# Altium integrated library Diodes-Power.IntLib: 75 symbols
Pins are listed as number, name and electrical type; pins without a type are passive.

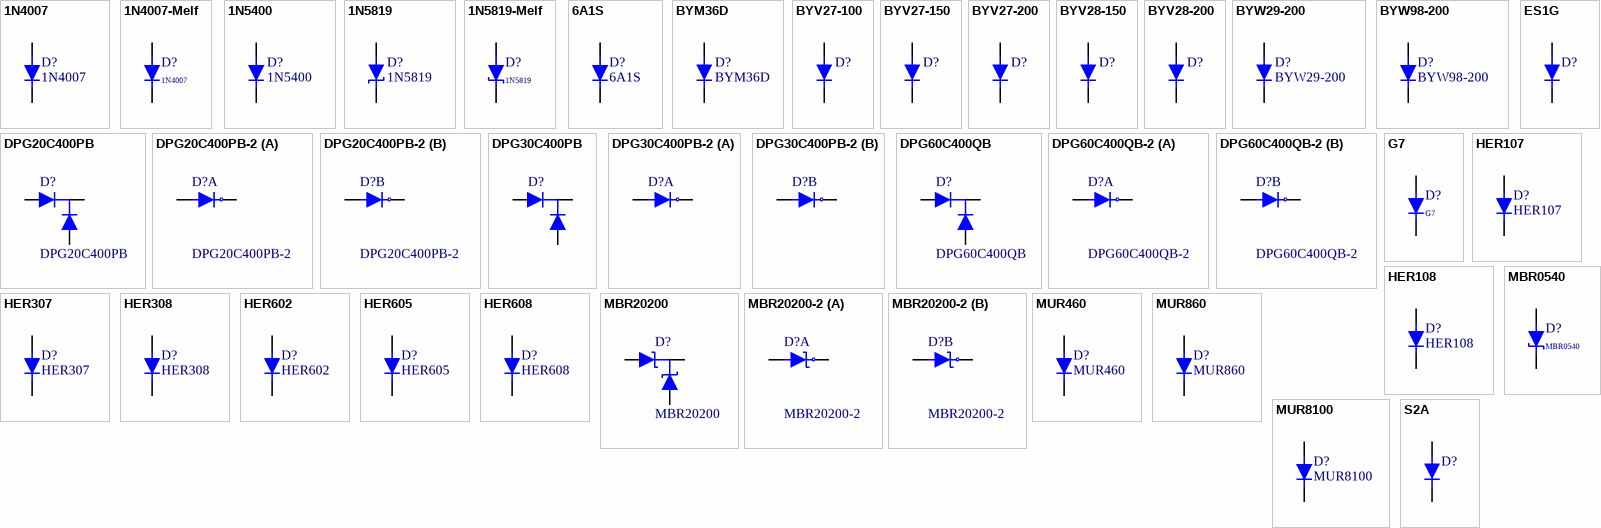
[diagram p0: symbols 1N4007 to S2A]

## 1N4007
designator D?
1000V 1A; Price: 0.05
footprint DO-41-300
simulation model D1N4007 (Model Description)
signal-integrity model D (Model Description)
footprint DO-41 Ver-100
footprint DO-41 Ver-100R
footprint DO-41 Ver-150
footprint DO-41 Ver-150R
footprint DO-41 Ver-200
footprint DO-41 Ver-200R
pins: 1 A, 2 K
1 alternate drawing of the same symbol

## 1N4007-Melf
designator D?, comment 1N4007
SMD-DL41; Price: 0.03
footprint SOD87/MLL41
simulation model D1N4007 (Model Description)
signal-integrity model D (Model Description)
pins: 1 A, 2 K
1 alternate drawing of the same symbol

## 1N5400
designator D?
100V 3A; Price: 0.12
footprint DO-201-500
simulation model D1N5400 (Model Description)
signal-integrity model D (Model Description)
footprint DO-201-200VR
footprint DO-201-200V
pins: 1 A, 2 K
1 alternate drawing of the same symbol

## 1N5819
designator D?
40V 1A; Price: 0.07
footprint DO-41-300
simulation model D1N5819 (Model Description)
signal-integrity model D (Model Description)
footprint DO-41 Ver-100
footprint DO-41 Ver-100R
pins: 1 A, 2 K
1 alternate drawing of the same symbol

## 1N5819-Melf
designator D?, comment 1N5819
SMD 40V 1A; Price: 0.1
footprint SOD87/MLL41
simulation model D1N5819 (Model Description)
signal-integrity model D (Model Description)
pins: 1 A, 2 K
1 alternate drawing of the same symbol

## 6A1S
designator D?
100V 6A; Price: 0.12
footprint P600-500
signal-integrity model D (Model Description)
pins: 1 A, 2 K
1 alternate drawing of the same symbol

## BYM36D
designator D?
800V 2.9A 150nS; Price: 0.58
footprint SOD-64-300
footprint SOD-64-400
signal-integrity model D (Model Description)
pins: 1 A, 2 K
1 alternate drawing of the same symbol

## BYV27-100
designator D?
100V 2A 25nS; Price: 0.58
footprint SOD-64-300
simulation model BYV27-100 (Model Description)
signal-integrity model D (Model Description)
pins: 1 A, 2 K
1 alternate drawing of the same symbol

## BYV27-150
designator D?
150V 2A 25nS; Price: 0.58
footprint SOD-64-300
simulation model BYV27-150 (Model Description)
signal-integrity model D (Model Description)
pins: 1 A, 2 K
1 alternate drawing of the same symbol

## BYV27-200
designator D?
200V 2A 25nS; Price: 0.58
footprint SOD-64-300
simulation model BYV27-200 (Model Description)
signal-integrity model D (Model Description)
pins: 1 A, 2 K
1 alternate drawing of the same symbol

## BYV28-150
designator D?
200V 3.5A 30nS; Price: 0.58
footprint SOD-64-400
simulation model BYV28-150 (Model Description)
signal-integrity model D (Model Description)
pins: 1 A, 2 K
1 alternate drawing of the same symbol

## BYV28-200
designator D?
200V 3.5A 30nS; Price: 0.58
footprint SOD-64-400
simulation model BYV28-150 (Model Description)
signal-integrity model D (Model Description)
pins: 1 A, 2 K
1 alternate drawing of the same symbol

## BYW29-200
designator D?
200V 8A 25nS; Price: 0.58
simulation model BYW29-200 (Model Description)
footprint DO220-1A 5.08
signal-integrity model D (Model Description)
pins: 1 C, 2 A
1 alternate drawing of the same symbol

## BYW98-200
designator D?
200V 3A 35nS; Price: 0.12
footprint DO-201-500
signal-integrity model D (Model Description)
footprint DO-201-200V
footprint DO-201-200VR
pins: 1 A, 2 K
1 alternate drawing of the same symbol

## DPG20C400PB
designator D?
400V 2x10A 45nS; Price: 3.3
footprint DO220D-1A 2.54
footprint DO220D-1A 5.08
footprint DO220D-2A 2.54
footprint DO220D-2A 5.08
signal-integrity model D (Model Description)
pins: 1 A1, 2 C, 3 A2
2 alternate drawings of the same symbol

## DPG20C400PB-2
designator D?
400V 2x10A 45nS; Price: 3.3
footprint DO220D-1A 2.54
footprint DO220D-1A 5.08
footprint DO220D-2A 2.54
footprint DO220D-2A 5.08
signal-integrity model D (Model Description)
part A pins: 1 A1, 2 C
part B pins: 2 C, 3 A2

## DPG30C400PB
designator D?
400V 2x15A 45nS; Price: 3.3
footprint DO220D-1A 2.54
footprint DO220D-1A 5.08
footprint DO220D-2A 2.54
footprint DO220D-2A 5.08
signal-integrity model D (Model Description)
pins: 1 A1, 2 C, 3 A2
2 alternate drawings of the same symbol

## DPG30C400PB-2
designator D?
400V 2x15A 45nS; Price: 3.3
footprint DO220D-1A 2.54
footprint DO220D-1A 5.08
footprint DO220D-2A 2.54
footprint DO220D-2A 5.08
signal-integrity model D (Model Description)
part A pins: 1 A1, 2 C
part B pins: 2 C, 3 A2

## DPG60C400QB
designator D?
400V 2x30A 45nS; Price: 6.9
footprint DO247DV10
signal-integrity model D (Model Description)
pins: 1 A1, 2 C, 3 A2
2 alternate drawings of the same symbol

## DPG60C400QB-2
designator D?
400V 2x30A 45nS; Price: 6.9
footprint DO247DV10
signal-integrity model D (Model Description)
part A pins: 1 A1, 2 C
part B pins: 2 C, 3 A2

## ES1G
designator D?
SMD SMA 1A 400V 35nS; Price: 0.09
footprint DO-214AC (SMA) (DO-214-AC/SMA; 2 C-Bend Leads; Body 5 x 2.7 mm, inc. leads (LxW))
signal-integrity model D (Model Description)
pins: 1 A, 2 K
1 alternate drawing of the same symbol

## G7
designator D?
SMD SMA 1A 1000V; Price: 0.06
footprint DO-214AC (SMA) (DO-214-AC/SMA; 2 C-Bend Leads; Body 5 x 2.7 mm, inc. leads (LxW))
signal-integrity model D (Model Description)
pins: 1 A, 2 K
1 alternate drawing of the same symbol

## HER107
designator D?
800V 1A 75nS; Price: 0.06
footprint DO-41-300
signal-integrity model D (Model Description)
pins: 1 A, 2 K
1 alternate drawing of the same symbol

## HER108
designator D?
1000V 1A 75nS; Price: 0.06
footprint DO-41-300
signal-integrity model D (Model Description)
pins: 1 A, 2 K
1 alternate drawing of the same symbol

## HER307
designator D?
800V 3A 75nS; Price: 0.07
footprint DO-201-500
signal-integrity model D (Model Description)
footprint DO-201-200V
footprint DO-201-200VR
pins: 1 A, 2 K
1 alternate drawing of the same symbol

## HER308
designator D?
1000V 3A 75nS; Price: 0.07
footprint DO-201-500
signal-integrity model D (Model Description)
footprint DO-201-200V
footprint DO-201-200VR
pins: 1 A, 2 K
1 alternate drawing of the same symbol

## HER602
designator D?
100V 6A 50nS; Price: 0.20
footprint P600-500
footprint P600-600
signal-integrity model D (Model Description)
footprint P600-300VR
pins: 1 A, 2 K
1 alternate drawing of the same symbol

## HER605
designator D?
400V 6A 75nS; Price: 0.23
footprint P600-500
footprint P600-600
signal-integrity model D (Model Description)
footprint P600-300VR
pins: 1 A, 2 K
1 alternate drawing of the same symbol

## HER608
designator D?
1000V 6A 75nS; Price: 0.25
footprint P600-500
footprint P600-600
signal-integrity model D (Model Description)
footprint P600-300VR
pins: 1 A, 2 K
1 alternate drawing of the same symbol

## MBR0540
designator D?
SMD 40V 0.5A; Price: 0.19
footprint SOD123
simulation model MBR0540 (Model Description)
signal-integrity model D (Model Description)
pins: 1 A, 2 K
1 alternate drawing of the same symbol

## MBR20200
designator D?
200V 2x10A; Price: 1.6
footprint DO220D-1A 5.08
footprint DO220D-1A 2.54
footprint DO220D-2A 2.54
footprint DO220D-2A 5.08
signal-integrity model D (Model Description)
footprint DO220dHS5
pins: 1 A1, 2 C, 3 A2
2 alternate drawings of the same symbol

## MBR20200-2
designator D?
200V 2x10A; Price: 1.6
footprint DO220D-1A 5.08
footprint DO220D-1A 2.54
footprint DO220D-2A 2.54
footprint DO220D-2A 5.08
signal-integrity model D (Model Description)
footprint DO220dHS5
part A pins: 1 A1, 2 C
part B pins: 2 C, 3 A2
2 alternate drawings of the same symbol

## MUR460
designator D?
600V 4A 75nS; Price: 0.07
footprint DO-201-500
signal-integrity model D (Model Description)
pins: 1 A, 2 K
1 alternate drawing of the same symbol

## MUR860
designator D?
600V 8A; Price: 1
footprint DO220-1A 5.08
signal-integrity model D (Model Description)
pins: 1 C, 2 A
1 alternate drawing of the same symbol

## MUR8100
designator D?
1000V 8A; Price: 1.5
footprint DO220-1A 5.08
signal-integrity model D (Model Description)
pins: 1 C, 2 A
1 alternate drawing of the same symbol

## S2A
designator D?
SMD SMB 2A 50V 1.5uS; Price: 0.7
footprint DO-214AA (SMB) (DO-214-AA/SMB; 2 C-Bend Leads; Body 5.3 x 3.6 mm, inc. leads (LxW))
signal-integrity model D (Model Description)
pins: 1 A, 2 K
1 alternate drawing of the same symbol

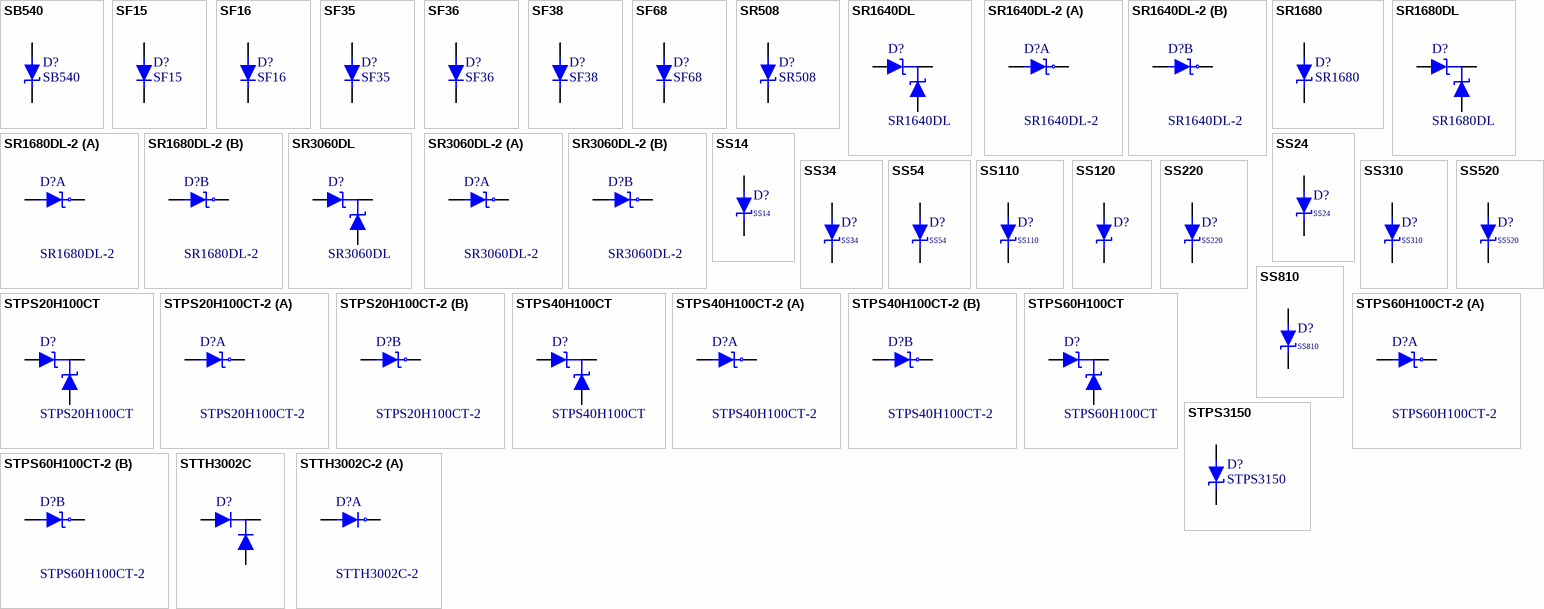
[diagram p1: symbols SB540 to STTH3002C-2]

## SB540
designator D?
40V 5A; Price: 0.2
footprint DO-201-500
signal-integrity model D (Model Description)
footprint DO-201-200V
footprint DO-201-200VR
pins: 1 A, 2 K
1 alternate drawing of the same symbol

## SF15
designator D?
300V 1A 35nS; Price: 0.1
footprint DO-41-300
signal-integrity model D (Model Description)
pins: 1 A, 2 K
1 alternate drawing of the same symbol

## SF16
designator D?
400V 1A 35nS; Price: 0.1
footprint DO-41-300
signal-integrity model D (Model Description)
pins: 1 A, 2 K
1 alternate drawing of the same symbol

## SF35
designator D?
300V 3A 35nS; Price: 0.13
footprint DO-201-500
signal-integrity model D (Model Description)
footprint DO-201-200VR
footprint DO-201-200V
pins: 1 A, 2 K
1 alternate drawing of the same symbol

## SF36
designator D?
400V 3A 35nS; Price: 0.13
footprint DO-201-500
signal-integrity model D (Model Description)
footprint DO-201-200VR
footprint DO-201-200V
pins: 1 A, 2 K
1 alternate drawing of the same symbol

## SF38
designator D?
600V 3A 35nS; Price: 0.2
footprint DO-201-500
signal-integrity model D (Model Description)
footprint DO-201-200VR
footprint DO-201-200V
pins: 1 A, 2 K
1 alternate drawing of the same symbol

## SF68
designator D?
600V 6A 35nS; Price: 0.2
footprint DO-201-500
signal-integrity model D (Model Description)
footprint DO-201-200VR
footprint DO-201-200V
pins: 1 A, 2 K
1 alternate drawing of the same symbol

## SR508
designator D?
80V 5A; Price: 0.25
footprint DO-201-500
signal-integrity model D (Model Description)
footprint DO-201-200VR
footprint DO-201-200V
pins: 1 A, 2 K

## SR1640DL
designator D?
40V 2x8A; Price: *
footprint DO220D-1A 2.54
footprint DO220D-1A 5.08
footprint DO220D-2A 2.54
footprint DO220D-2A 5.08
signal-integrity model D (Model Description)
pins: 1 A1, 2 A2, 3 K
2 alternate drawings of the same symbol

## SR1640DL-2
designator D?
40V 2x8A; Price: *
footprint DO220D-1A 2.54
footprint DO220D-1A 5.08
footprint DO220D-2A 2.54
footprint DO220D-2A 5.08
signal-integrity model D (Model Description)
part A pins: 1 A1, 2 C
part B pins: 2 C, 3 A2

## SR1680
designator D?
80V 16A; Price: 0.58
footprint DO220-1A 5.08
signal-integrity model D (Model Description)
pins: 1 C, 2 A

## SR1680DL
designator D?
80V 2x8A; Price: 0.58
footprint DO220D-1A 2.54
footprint DO220D-1A 5.08
footprint DO220D-2A 2.54
footprint DO220D-2A 5.08
signal-integrity model D (Model Description)
pins: 1 A1, 2 C, 3 A2
2 alternate drawings of the same symbol

## SR1680DL-2
designator D?
80V 2x8A; Price: 0.58
footprint DO220D-1A 2.54
footprint DO220D-1A 5.08
footprint DO220D-2A 2.54
footprint DO220D-2A 5.08
signal-integrity model D (Model Description)
part A pins: 1 A1, 2 C
part B pins: 2 C, 3 A2

## SR3060DL
designator D?
60V 2x15A; Price: 0.97
footprint DO247DV10
signal-integrity model D (Model Description)
pins: 1 A1, 2 C, 3 A2
2 alternate drawings of the same symbol

## SR3060DL-2
designator D?
60V 2x15A; Price: 0.97
footprint DO247DV10
signal-integrity model D (Model Description)
part A pins: 1 A1, 2 C
part B pins: 2 C, 3 A2

## SS14
designator D?
SMD SMA 40V 1A; Price: 0.04
footprint DO-214AC (SMA) (DO-214-AC/SMA; 2 C-Bend Leads; Body 5 x 2.7 mm, inc. leads (LxW))
simulation model SS14 (Model Description)
signal-integrity model D (Model Description)
pins: 1 A, 2 K
1 alternate drawing of the same symbol

## SS24
designator D?
SMD SMB 40V 2A; Price: 0.11
footprint DO-214AA (SMB) (DO-214-AA/SMB; 2 C-Bend Leads; Body 5.3 x 3.6 mm, inc. leads (LxW))
signal-integrity model D (Model Description)
pins: 1 A, 2 K
1 alternate drawing of the same symbol

## SS34
designator D?
SMD SMC  40V 3A; Price: 0.14
footprint DO-214AB (SMC) (DO-214-AB/SMC; 2 C-Bend Leads; Body 7.9 x 5.9 mm, inc. leads (LxW))
signal-integrity model D (Model Description)
pins: 1 A, 2 K
1 alternate drawing of the same symbol

## SS54
designator D?
SMD SMC 40V 5A; Price: 0.23
footprint DO-214AB (SMC) (DO-214-AB/SMC; 2 C-Bend Leads; Body 7.9 x 5.9 mm, inc. leads (LxW))
signal-integrity model D (Model Description)
pins: 1 A, 2 K
1 alternate drawing of the same symbol

## SS110
designator D?
SMD SMA 100V 1A; Price: 0.08
footprint DO-214AC (SMA) (DO-214-AC/SMA; 2 C-Bend Leads; Body 5 x 2.7 mm, inc. leads (LxW))
signal-integrity model D (Model Description)
pins: 1 A, 2 K
1 alternate drawing of the same symbol

## SS120
designator D?
SMD SMA 200V 1A; Price: 0.1
footprint DO-214AC (SMA) (DO-214-AC/SMA; 2 C-Bend Leads; Body 5 x 2.7 mm, inc. leads (LxW))
signal-integrity model D (Model Description)
pins: 1 A, 2 K
1 alternate drawing of the same symbol

## SS220
designator D?
SMD SMB 200V 2A; Price: 0.11
footprint DO-214AA (SMB) (DO-214-AA/SMB; 2 C-Bend Leads; Body 5.3 x 3.6 mm, inc. leads (LxW))
signal-integrity model D (Model Description)
pins: 1 A, 2 K
1 alternate drawing of the same symbol

## SS310
designator D?
SMD SMC  100V 3A; Price: 0.14
footprint DO-214AB (SMC) (DO-214-AB/SMC; 2 C-Bend Leads; Body 7.9 x 5.9 mm, inc. leads (LxW))
signal-integrity model D (Model Description)
pins: 1 A, 2 K
1 alternate drawing of the same symbol

## SS520
designator D?
SMD SMC 200V 5A; Price: 0.26
footprint DO-214AB (SMC) (DO-214-AB/SMC; 2 C-Bend Leads; Body 7.9 x 5.9 mm, inc. leads (LxW))
signal-integrity model D (Model Description)
pins: 1 A, 2 K
1 alternate drawing of the same symbol

## SS810
designator D?
SMD SMC 100V 8A; Price: 0.53
footprint DO-214AB (SMC) (DO-214-AB/SMC; 2 C-Bend Leads; Body 7.9 x 5.9 mm, inc. leads (LxW))
signal-integrity model D (Model Description)
pins: 1 A, 2 K
1 alternate drawing of the same symbol

## STPS20H100CT
designator D?
100V 2x10A; Price: 1
footprint DO220D-1A 2.54
footprint DO220D-1A 5.08
footprint DO220D-2A 2.54
footprint DO220D-2A 5.08
signal-integrity model D (Model Description)
pins: 1 A1, 2 C, 3 A2
2 alternate drawings of the same symbol

## STPS20H100CT-2
designator D?
100V 2x10A; Price: 1
footprint DO220D-1A 2.54
footprint DO220D-1A 5.08
footprint DO220D-2A 2.54
footprint DO220D-2A 5.08
signal-integrity model D (Model Description)
part A pins: 1 A1, 2 C
part B pins: 2 C, 3 A2

## STPS40H100CT
designator D?
100V 2x20A; Price: 2.82
footprint DO247dV10
signal-integrity model D (Model Description)
pins: 1 A1, 2 C, 3 A2
3 alternate drawings of the same symbol

## STPS40H100CT-2
designator D?
100V 2x20A; Price: 2.82
footprint DO247dV10
signal-integrity model D (Model Description)
part A pins: 1 A1, 2 C
part B pins: 2 C, 3 A1

## STPS60H100CT
designator D?
100V 2x30A; Price: 2.82
footprint DO220D-1A 2.54
footprint DO220D-1A 5.08
footprint DO220D-2A 2.54
footprint DO220D-2A 5.08
signal-integrity model D (Model Description)
pins: 1 A1, 2 C, 3 A2
2 alternate drawings of the same symbol

## STPS60H100CT-2
designator D?
100V 2x30A; Price: 2.82
footprint DO220D-1A 2.54
footprint DO220D-1A 5.08
footprint DO220D-2A 2.54
footprint DO220D-2A 5.08
signal-integrity model D (Model Description)
part A pins: 1 A1, 2 C
part B pins: 2 C, 3 A1

## STPS3150
designator D?
80V 5A; Price: 0.25
footprint DO-201-500
signal-integrity model D (Model Description)
pins: 1 A, 2 K
1 alternate drawing of the same symbol

## STTH3002C
designator D?
200V 2x15A 17nS; Price: 3.72
footprint DO247dH
signal-integrity model D (Model Description)
footprint DO247dHr
pins: 1 A1, 2 C, 3 A2
2 alternate drawings of the same symbol

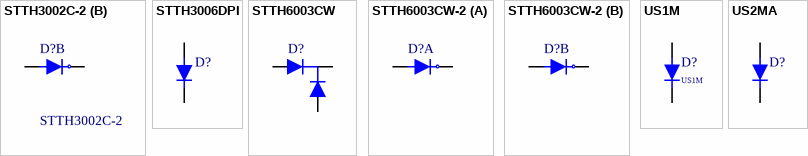
[diagram p2: symbols STTH3002C-2 to US2MA]

## STTH3002C-2
designator D?
200V 2x15A 17nS; Price: 0.97
footprint DO247dH
signal-integrity model D (Model Description)
footprint DO247dHr
part A pins: 1 A1, 2 C
part B pins: 2 C, 3 A2

## STTH3006DPI
designator D?
600V 30A 25nS; Price: 10.32
footprint DO247H
signal-integrity model D (Model Description)
footprint DO247Hr
pins: 1 C, 2 A

## STTH6003CW
designator D?
300V 2x30A 55nS (350nS)@30A; Price: 4.5
footprint DO247dH
signal-integrity model D (Model Description)
footprint DO247dHr
pins: 1 A1, 2 C, 3 A2
2 alternate drawings of the same symbol

## STTH6003CW-2
designator D?
300V 2x30A 55nS (350nS)@30A; Price: 4.5
footprint DO247dH
signal-integrity model D (Model Description)
footprint DO247dHr
part A pins: 1 A1, 2 C
part B pins: 2 C, 3 A2

## US1M
designator D?
SMD SMA 1A 1000V 75nS; Price: 0.06
footprint DO-214AC (SMA) (DO-214-AC/SMA; 2 C-Bend Leads; Body 5 x 2.7 mm, inc. leads (LxW))
signal-integrity model D (Model Description)
pins: 1 A, 2 K
1 alternate drawing of the same symbol

## US2MA
designator D?
SMD SMA 2A 1000V 75nS; Price: 0.11
footprint DO-214AC (SMA) (DO-214-AC/SMA; 2 C-Bend Leads; Body 5 x 2.7 mm, inc. leads (LxW))
signal-integrity model D (Model Description)
pins: 1 A, 2 K
1 alternate drawing of the same symbol